# EAGLE library part SN74HCT08DBR (library SamacSys_Parts)
Quadruple 2-Input Positive-AND Gates Source: Datasheet <http://www.ti.com/lit/gpn/sn74hct08>
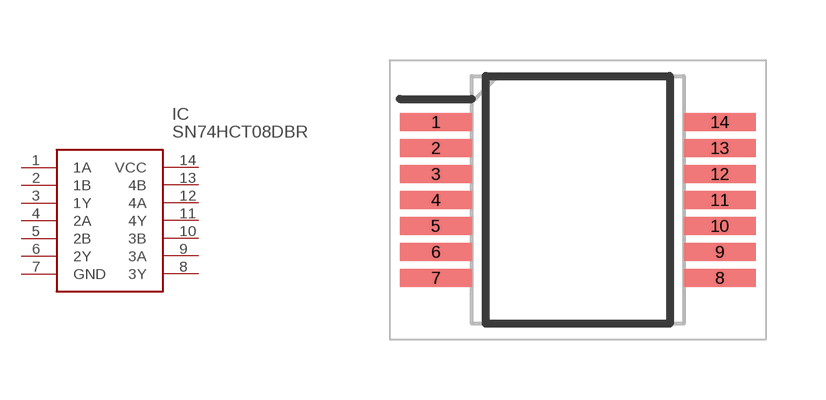
[diagram p119: symbol with the pads of SOP65P780X200-14N; footprint SOP65P780X200-14N]

Designator prefix IC

## SN74HCT08DBR (DESCRIPTION: Quadruple 2-Input Positive-AND Gates; HEIGHT: 2mm; MANUFACTURER_NAME: Texas Instruments; MANUFACTURER_PART_NUMBER: SN74HCT08DBR; MOUSER_PART_NUMBER: 595-SN74HCT08DBR; MOUSER_PRICE-STOCK: https://www.mouser.co.uk/ProductDetail/Texas-Instruments/SN74HCT08DBR?qs=MXJmdiNpZe%252BSG4jlXMKOzQ%3D%3D)  [SOP65P780X200-14N]
1  1A
2  1B
3  1Y
4  2A
5  2B
6  2Y
7  GND
8  3Y
9  3A
10  3B
11  4Y
12  4A
13  4B
14  VCC

## Footprint SOP65P780X200-14N (pad centres in mm)
DB (R-PDSO-G14)
smd 1.8 x 0.45: 1 -3.55,1.95; 2 -3.55,1.3; 3 -3.55,0.65; 4 -3.55,0; 5 -3.55,-0.65; 6 -3.55,-1.3; 7 -3.55,-1.95; 8 3.55,-1.95; 9 3.55,-1.3; 10 3.55,-0.65; 11 3.55,0; 12 3.55,0.65; 13 3.55,1.3; 14 3.55,1.95